# Altium schematic symbol library Sync_Buck.SCHLIB: 63 symbols
Pins are listed as number, name and electrical type; pins without a type are passive.

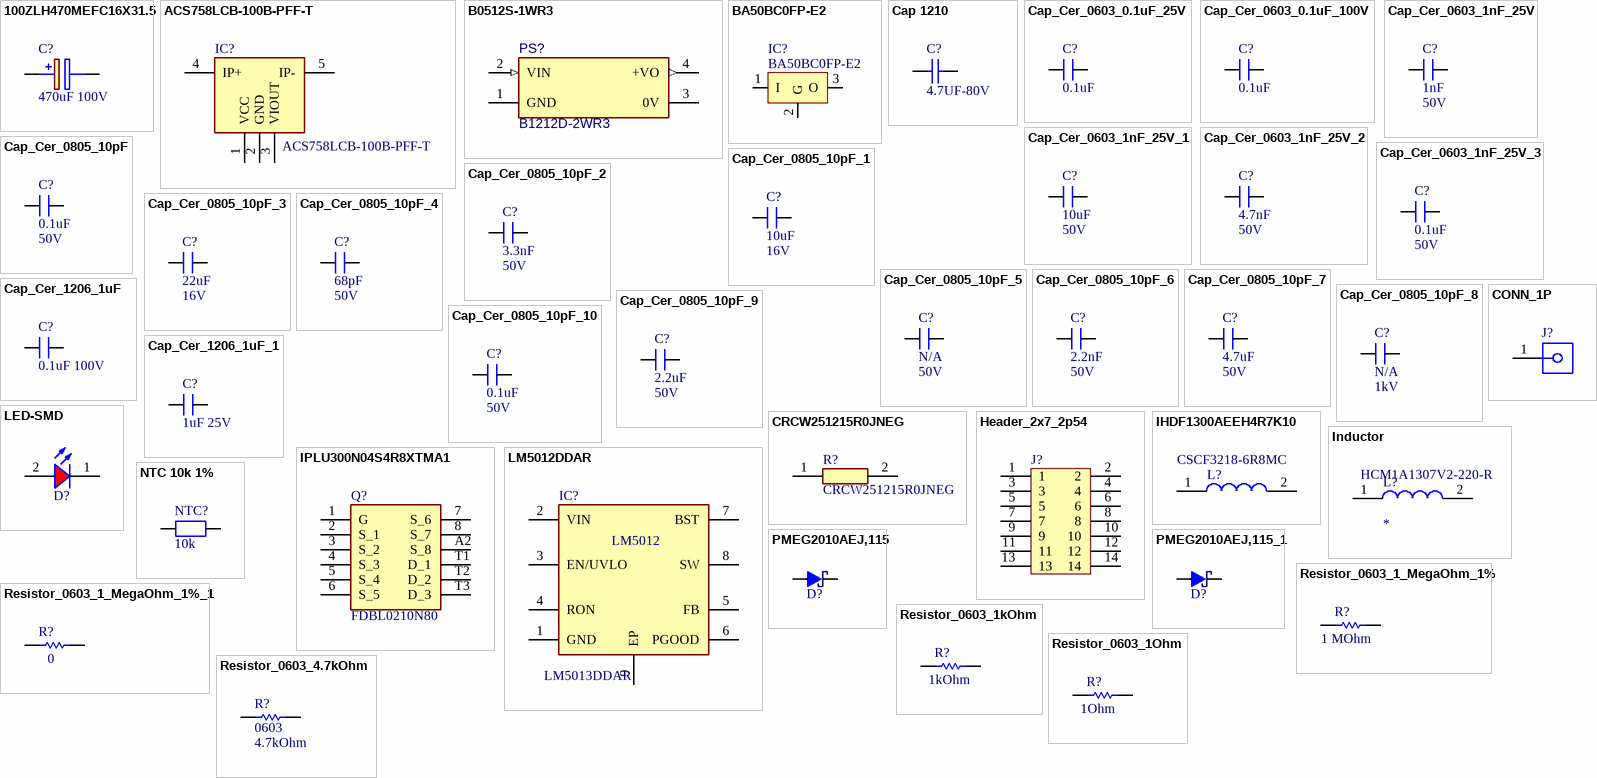
[diagram p0: symbols 100ZLH470MEFC16X31.5 to Resistor_0603_4.7kOhm]

## 100ZLH470MEFC16X31.5
designator C?, comment 470uF 100V
CAP ALUM 470UF 20% 80V RADIAL; Manufacturer_Name: Panasonic Electronic Components; Part Number: EEU-FS1K471L; Value: 470uF 80V; Height: 33.5mm; Mouser Part Number: EEU-FS1K471L; Mouser Price/Stock: https://www.digikey.com/en/products/detail/panasonic-electronic-components/EEU-FS1K471L/9597020; Arrow Part Number: EEU-FS1K471L; Arrow Price/Stock: https://www.arrow.com/en/products/100zlh470mefc16x31.5/rubycon?region=nac
footprint CAP_16x31.5
pins: 1 +, 2 -

## ACS758LCB-100B-PFF-T
designator IC?
Integrated Circuit; Manufacturer_Name: Allegro Microsystems; Datasheet Link: https://www.allegromicro.com/-/media/files/datasheets/acs758-datasheet.ashx; Height: 7.1mm; Manufacturer_Part_Number: ACS758LCB-100B-PFF-T; Mouser Part Number: 250-758LCB100BPFFT; Mouser Price/Stock: https://www.mouser.co.uk/ProductDetail/Allegro-MicroSystems/ACS758LCB-100B-PFF-T?qs=pUKx8fyJudA0WtlqV%2Fcrcw%3D%3D; Arrow Part Number: ACS758LCB-100B-PFF-T; Arrow Price/Stock: https://www.arrow.com/en/products/acs758lcb-100b-pff-t/allegro-microsystems?region=nac
footprint ACS772ECB200BPFFT
pins: 1 VCC, 2 GND, 3 VIOUT, 4 IP+, 5 IP-

## B0512S-1WR3
designator PS?, comment B1212D-2WR3
Isolated Module DC DC Converter 1 Output 12V - - - 84mA 4.5V - 5.5V Input; Part Number: PDSE1-S5-S12-S; Manufacturer: Mornsun America, LLC; Description SEL: DC DC CONVERTER 12V 1W; Value: *
footprint CONV_B0512S-1WR3 (Footprint not found)
footprint B_D-2WR3; pin to pad 2>14 3>8 4>9
pins: 1 GND (power), 2 VIN (in), 3 0V, 4 +VO (out)

## BA50BC0FP-E2
designator IC?
IC REG LINEAR 5V 1A TO252-2; Manufacture: Rohm Semiconductor; ComponentLink1Description: Manufacturer Link; ComponentLink1URL: http://www.st.com/; ComponentLink2Description: Datasheet; ComponentLink2URL: http://www.st.com/stonline/products/literature/ds/2146/l78m05c.pdf; Footprint type: SMD; Category: IC; Part Number: BA50BC0FP-E2
footprint TO252-123
pins: 1 I (power), 2 G (power), 3 O (power)

## Cap 1210
designator C?, comment value 4.7UF-80V  (hidden comment: GRM32ER71K475KE14L)
CAP CER 4.7uF 80V X7R 1210; Manufacturer: TDK Corporation; Description std: CAP CER 4.7UF 100V X7S 1210; Category: Capacitors; Part Number: GRM32ER71K475KE14L; Link: https://www.digikey.com/product-detail/en/tdk-corporation/C3225X7S2A475M200AB/445-6043-2-ND/2443521; Digikey Price/1KU: 0.56250; Package: 1210; Digikey Price/1unit: 1.64
footprint C1210
footprint C_1210
pins: 1, 2

## Cap_Cer_0603_0.1uF_25V
designator C?, comment value 0.1uF  (hidden comment: 0603)
CAP CER 0.1UF 25V X8R 0603; Manufacturer: Murata Electronics; Part Number: GCM188R91E104KA37J; Part Code: S1200-000077; Point: 2; Description SEL: CAP CER 0.1UF 25V X8R 0603; Footprint Type: SMD
footprint C_0603 (Capacitor 0603)
pins: 1, 2

## Cap_Cer_0603_0.1uF_100V
designator C?, comment value 0.1uF  (hidden comment: 0603)
CAP CER 0.1UF 100V X7R 0603; Manufacturer: Murata Electronics; Part Number: GRM188R72A104KA35D; Part Code: S1200-000079; Point: 2; Description SEL: CAP CER 0.1UF 100V X7R 0603; Footprint Type: SMD
footprint C_0603 (Capacitor 0603)
pins: 1, 2

## Cap_Cer_0603_1nF_25V
designator C?, comment 1nF  value 50V
CAP CER 1nF 50V X7R 0603; Manufacturer: Murata Electronics; Part Number: GCM188R71E102KA37D; Part Code: S1200-000082; Description SEL: CAP CER 1000PF 25V X7R 0603; Point: 2; Footprint Type: SMD
footprint C_0603 (Capacitor 0603)
pins: 1, 2

## Cap_Cer_0603_1nF_25V_1
designator C?, comment 10uF  value 50V
CAP CER 10UF 16V X5R 0805; Manufacturer: Murata Electronics; Part Number: CL21A106KOCLRNC; Part Code: S1200-000082; Point: 2; Description SEL: CAP CER 10UF 16V X5R 0805; Footprint Type: SMD
footprint C_0603 (Capacitor 0603)
pins: 1, 2

## Cap_Cer_0603_1nF_25V_2
designator C?, comment 4.7nF  value 50V
CAP CER 0805 4.7NF 50V C0G 5%; Manufacturer: KEMET; Part Number: C0805C472J5GECAUTO; Part Code: S1200-000082; Point: 2; Description SEL: CAP CER 0805 4.7NF 50V C0G 5%; Footprint Type: SMD
footprint C_0603 (Capacitor 0603)
pins: 1, 2

## Cap_Cer_0603_1nF_25V_3
designator C?, comment 0.1uF  value 50V
CAP CER 0.1UF 16V X5R 0603; Manufacturer: Murata Electronics; Part Number: CL21A106KOCLRNC; Part Code: S1200-000082; Description SEL: CAP CER 10UF 16V X5R 0805; Point: 2; Footprint Type: SMD
footprint C_0603 (Capacitor 0603)
pins: 1, 2

## Cap_Cer_0805_10pF
designator C?, comment 0.1uF  value 50V
CAP CER 0.1uF 50V X7R 0805; Manufacturer: Samsung Electro-Mechanics; Part Number: CL21B104KBCNNNC; Part Code: S1200-000116; Description SEL: 10pF 50VDC; Point: 2; Footprint Type: SMD
footprint C_0805 (Capacitor 0805)
pins: 1, 2

## Cap_Cer_0805_10pF_1
designator C?, comment 10uF  value 16V
CAP CER 10uF 16V X7R 0805; Manufacturer: Kemet; Part Number: CL21A106KOCLRNC; Part Code: S1200-000116; Point: 2; Description SEL: CAP CER 10uF 16V X7R 0805; Footprint Type: SMD
footprint C_0805 (Capacitor 0805)
pins: 1, 2

## Cap_Cer_0805_10pF_2
designator C?, comment 3.3nF  value 50V
CAP CER 0805 3.3NF 50V C0G 1%; Manufacturer: Kemet; Part Number: C0805C332F5GECAUTO; Part Code: S1200-000116; Description SEL: 10pF 50VDC; Point: 2; Footprint Type: SMD
footprint C_0805 (Capacitor 0805)
footprint C_0603 (Capacitor 0603)
pins: 1, 2

## Cap_Cer_0805_10pF_3
designator C?, comment 22uF  value 16V
CAP CER 22uF 16V X7R 1210; Manufacturer: Samsung Electro-Mechanics; Part Number: CL32A226KOJNNNE; Part Code: S1200-000116; Point: 2; Description SEL: CAP CER 22uF 16V X7R 1210; Footprint Type: SMD
footprint C_0805 (Capacitor 0805)
footprint C_1210 (Capacitor 1210)
pins: 1, 2

## Cap_Cer_0805_10pF_4
designator C?, comment 68pF  value 50V
CAP CER 68pF 50V C0G 0603; Manufacturer: Kemet; Part Number: CL10C680JB81PNC; Part Code: S1200-000116; Point: 2; Description SEL: CAP CER 68pF 50V C0G 0603; Footprint Type: SMD
footprint C_0805 (Capacitor 0805)
footprint C_0603 (Capacitor 0603)
pins: 1, 2

## Cap_Cer_0805_10pF_5
designator C?, comment N/A  value 50V
CAP CER 100pF 50V C0G 0603; Manufacturer: Kemet; Part Number: CL10C101JB81PNC; Part Code: S1200-000116; Point: 2; Description SEL: CAP CER 100pF 50V C0G 0603; Footprint Type: SMD
footprint C_0805 (Capacitor 0805)
footprint C_0603 (Capacitor 0603)
pins: 1, 2

## Cap_Cer_0805_10pF_6
designator C?, comment 2.2nF  value 50V
CAP CER 2.2nF 50V X7R 0805; Manufacturer: Samsung Electro-Mechanics; Part Number: C0805C222J5GEC7800; Part Code: S1200-000116; Description SEL: CAP CER 2.2nF 50V X7R 0603; Point: 2; Footprint Type: SMD
footprint C_0805 (Capacitor 0805)
footprint C_0603 (Capacitor 0603)
pins: 1, 2

## Cap_Cer_0805_10pF_7
designator C?, comment 4.7uF  value 50V
CAP CER 4.7uF 50V X7R 0805; Manufacturer: Samsung Electro-Mechanics; Part Number: CL31B225KBHNNNE; Part Code: S1200-000116; Description SEL: 10pF 50VDC; Point: 2; Footprint Type: SMD
footprint C_0805 (Capacitor 0805)
pins: 1, 2

## Cap_Cer_0805_10pF_8
designator C?, comment N/A  value 1kV
CAP CER 100pF 50V C0G 0603; Manufacturer: Kemet; Part Number: CL10C101JB81PNC; Part Code: S1200-000116; Point: 2; Description SEL: CAP CER 100pF 50V C0G 0603; Footprint Type: SMD
footprint C_0805 (Capacitor 0805)
footprint C_0603 (Capacitor 0603)
pins: 1, 2

## Cap_Cer_0805_10pF_9
designator C?, comment 2.2uF  value 50V
CAP CER 2.2uF 50V X7R 0805; Manufacturer: Samsung Electro-Mechanics; Part Number: CL31B225KBHNNNE; Part Code: S1200-000116; Description SEL: 10pF 50VDC; Point: 2; Footprint Type: SMD
footprint C_0805 (Capacitor 0805)
pins: 1, 2

## Cap_Cer_0805_10pF_10
designator C?, comment 0.1uF  value 50V
CAP CER 0.1uF 50V X7R 0603; Manufacturer: Kemet; Part Number: CL10C680JB81PNC; Part Code: S1200-000116; Description SEL: CAP CER 68pF 50V C0G 0603; Point: 2; Footprint Type: SMD
footprint C_0805 (Capacitor 0805)
footprint C_0603 (Capacitor 0603)
pins: 1, 2

## Cap_Cer_1206_1uF
designator C?, comment 0.1uF 100V
Ceramic Capacitor 1206 (+-10% TH)/(+10%SMD); Manufacturer: TDK Corporation; Part Number: C3216X7R2A105K160AA; Part Code: S1200-000129; Description SEL: CAP CER 1UF 100V X7R 1206; Point: 2; Footprint Type: SMD
footprint C_1206 (Capacitor 1206)
pins: 1, 2

## Cap_Cer_1206_1uF_1
designator C?, comment 1uF 25V
Ceramic Capacitor 1206 (+-10% TH)/(+10%SMD); Manufacturer: TDK Corporation; Part Number: C3216X7R2A105K160AA; Part Code: S1200-000129; Description SEL: CAP CER 1UF 100V X7R 1206; Point: 2; Footprint Type: SMD
footprint C_1206 (Capacitor 1206)
pins: 1, 2

## CONN_1P
designator J?
TERM REDCUBE M4 8PIN PCB; Part Number: 7460307; Footprint type: TH; Footprint/Package: Nonstandard
footprint Electric Pole 1
footprint Electronic_pole_1
footprint Electric Pole 2
footprint Hole_7mm
footprint Hole_4.2mm
footprint Hole_4.2mm_Toplayer
pins: 1

## CRCW251215R0JNEG
designator R?
Resistor; Manufacturer_Name: Vishay; Datasheet Link: http://www.vishay.com/docs/20035/dcrcwe3.pdf; Height: 0.7mm; Manufacturer_Part_Number: CRCW251215R0JNEG; Mouser Part Number: 71-CRCW2512J-15-E3; Mouser Price/Stock: https://www.mouser.co.uk/ProductDetail/Vishay-Dale/CRCW251215R0JNEG?qs=Z1AZHWO%2FsqLBwgjNhUTIZA%3D%3D; Arrow Part Number: CRCW251215R0JNEG; Arrow Price/Stock: https://www.arrow.com/en/products/crcw251215r0jneg/vishay
footprint RESC6332X70N
pins: 1, 2

## Header_2x7_2p54
designator J?  (value not drawn)
CONN D-SUB PLUG 15POS VERT SLDR; Part Number: L717SDAH15POL2RM8; Part Code: S1900-000013; Point: 14; Manufacturer: *; Value: *; Description SEL: Header_2x7_2p54; Footprint Type: TH
footprint HEADER_2X7 (HEADER_2X7_2P54)
pins: 1, 2, 3, 4, 5, 6, 7, 8, 9, 10, 11, 12, 13, 14

## IHDF1300AEEH4R7K10
designator L?, comment CSCF3218-6R8MC
6.8 µH Shielded Wirewound Inductor 50 A 1.6mOhm Max Nonstandard Mn-Zn Ferrite Low Loss; Manufacturer_Name: Vishay; Datasheet Link: https://www.vishay.com/docs/34538/ihdf-1300ae-10.pdf; Height: 15.4mm; Part Number: CSCF3218-6R8MC; Mouser Part Number: CSCF3218-6R8MC; Mouser Price/Stock: https://www.mouser.co.uk/ProductDetail/Vishay-Dale/IHDF1300AEEH4R7K10?qs=rkhjVJ6%2F3EKAMBQJjlTUTQ%3D%3D
footprint IHDF1300AEEH4R7K10
footprint CSCF3218-6R8MC
pins: 1, 2

## Inductor
designator L?, comment HCM1A1307V2-220-R
FIXED IND 22UH 6A 33.1 MOHM SMD; Manufacturer: Taiyo Yuden; Footprint: Nonstandard; Footprint type: SMD; Category: Inductor; Part Number: HCM1A1307V2-220-R; Value: *
footprint IND-SMD-6mm*6mm
footprint IND-SMD-8mm*8mm
footprint IND-SMD-10mm*10mm
footprint IND-SMD-7.2mmx7.2mm
footprint Inductor-10x10mm
footprint SRR1260A470M
pins: 1, 2

## IPLU300N04S4R8XTMA1
designator Q?, comment FDBL0210N80
MOSFET N-CH 80V 240A 8HPSOF; Manufacturer_Name: Infineon; Height: 2.3mm; Part Number: FDBL0210N80; Mouser Part Number: FDBL0210N80; Arrow Part Number: IPLU300N04S4R8XTMA1
footprint NTBLS1D5N10MC
footprint NTBLS1D5N10MC
footprint NTBLS1D5N10MC - duplicate
pins: 1 G, 2 S_1, 3 S_2, 4 S_3, 5 S_4, 6 S_5, 7 S_6, 8 S_7, A2 S_8, T1 D_1, T2 D_2, T3 D_3

## LED-SMD
designator D?  (value not drawn)
LED RED DIFFUSED 0805 SMD; Manufacturer: OSRAM Opto Semiconductors Inc.; Part Number: LS R976-NR-1; Category: LED; Footprint type: SMD
footprint SM-LED-0805-Red
pins: 1 K, 2 A

## LM5012DDAR
designator IC?, comment LM5013DDAR
IC REG BUCK ADJ 3.5A 8SO PWR; Part Number: LM5013DDAR
footprint SOIC127P600X170-9N
pins: 1 GND, 2 VIN, 3 EN/UVLO, 4 RON, 5 FB, 6 PGOOD, 7 BST, 8 SW, 9 EP
text: LM5012

## NTC 10k 1%
designator NTC?, comment 10k
THERMISTOR NTC 10KOHM 3940K 0805; Manufacturer: Vishay Beyschlag/Draloric/BC Components; Part Number: NTCS0805E3103JHT; Part Code: S1100-000169; Point: 2; Power: 1/10W; Tolerance: 0.1%; Description SEL: THERMISTOR NTC 10KOHM 3940K 0805; Footprint Type: SMD
footprint NTC 0805
pins: 1, 2

## PMEG2010AEJ,115
designator D?, comment B0520WS-7-F  (value not drawn)
DIODE SCHOTTKY 20V 1A SOD323F; Manufacturer: Nexperia USA Inc.; Part Number: PMEG2010AEJ,115; Current: 1A (DC); Category: DIODE; Footprint/Package: SOD-323F; Footprint type: SMD; Voltage: 20 V
footprint SOD323F (SOD-323; 2 Leads; Body 2.7 x 1.6 mm, (LxW))
pins: 1, 2

## PMEG2010AEJ,115_1
designator D?, comment PMEG2010AEJ,115  (value not drawn)
DIODE SCHOTTKY 20V 1A SOD323F; Manufacturer: Nexperia USA Inc.; Current: 1A (DC); Category: DIODE; Part Number: PMEG2010AEJ,115; Footprint/Package: SOD-323F; Footprint type: SMD; Voltage: 20 V
footprint SOD323F (SOD-323; 2 Leads; Body 2.7 x 1.6 mm, (LxW))
pins: 1, 2

## Resistor_0603_1_MegaOhm_1%
designator R?, comment value 1 MOhm  (hidden comment: 0603)
RES 1M OHM 1% 1/10W 0603; Manufacturer: YAGEO; Part Number: RC0603FR-071ML; Part Code: S1100-000171; Point: 2; Description SEL: RES 1M OHM 1% 1/10W 0603; Footprint Type: SMD; Power: 1/10W; Tolerance: 1%
footprint R_0603
pins: 1, 2

## Resistor_0603_1_MegaOhm_1%_1
designator R?, comment value 0  (hidden comment: 0603)
RES 1M OHM 1% 1/10W 0603; Manufacturer: YAGEO; Part Number: RC0603FR-071ML; Part Code: S1100-000171; Point: 2; Description SEL: RES 1M OHM 1% 1/10W 0603; Footprint Type: SMD; Power: 1/10W; Tolerance: 1%
footprint R_0603
pins: 1, 2

## Resistor_0603_1kOhm
designator R?, comment value 1kOhm  (hidden comment: 0603)
RES 1K OHM 1% 1/10W 0603; Manufacturer: Vishay Dale; Part Number: CRCW06031K00FKTA; Part Code: S1100-000139; Point: 2; Description SEL: RES 1K OHM 1% 1/10W 0603; Footprint Type: SMD; Power: 1/10W; Tolerance: 1%
footprint R_0603
pins: 1, 2

## Resistor_0603_1Ohm
designator R?, comment value 1Ohm  (hidden comment: 0603)
RES 1OHM 1% 1/8W 0603; Manufacturer: Vishay Dale; Part Number: MCT06030C1008FP500; Part Code: S1100-000140; Point: 2; Description SEL: RES 1 OHM 1% 1/8W 0603; Footprint Type: SMD; Power: 1/8W; Tolerance: 1%
footprint R_0603
pins: 1, 2

## Resistor_0603_4.7kOhm
designator R?, comment 0603  value 4.7kOhm
RES 4.7K OHM 1% 1/10W 0603; Manufacturer: YAGEO; Part Number: RC0603FR-074K7L; Part Code: S1100-000158; Point: 2; Description SEL: RES 4.7K OHM 1% 1/10W 0603; Footprint Type: SMD; Power: 1/10W; Tolerance: 1%
footprint R_0603
pins: 1, 2

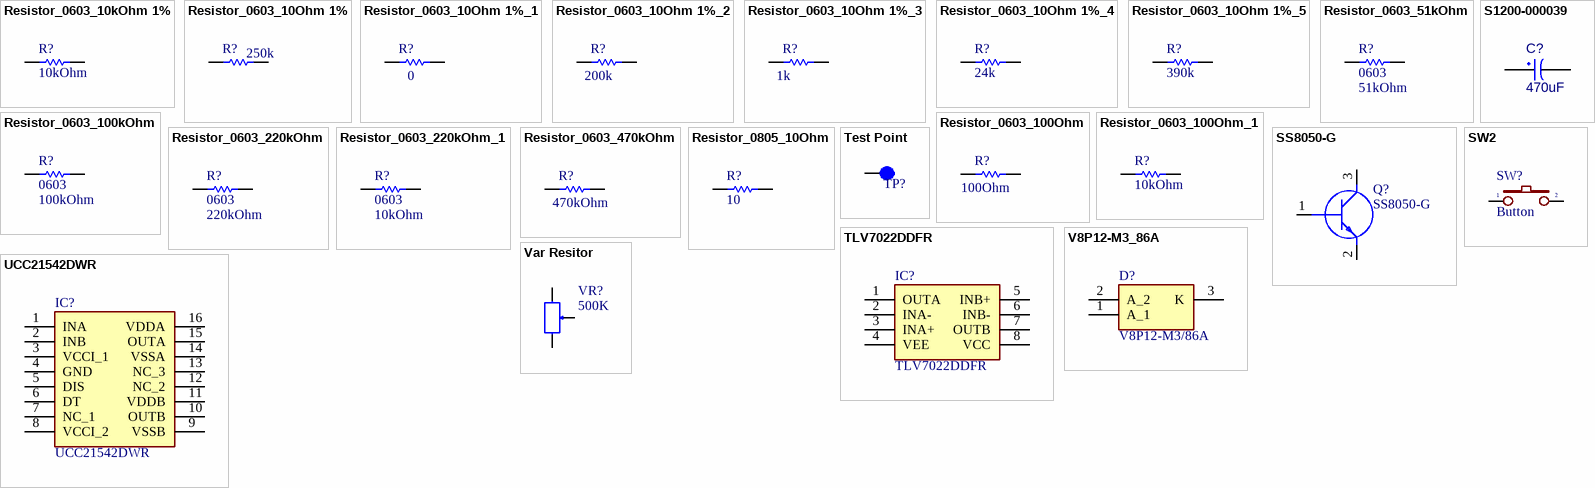
[diagram p1: symbols Resistor_0603_10kOhm 1% to Var Resitor]

## Resistor_0603_10kOhm 1%
designator R?, comment value 10kOhm  (hidden comment: 0603)
RES 10K OHM 1% 1/10W 0603; Manufacturer: YAGEO; Part Number: RC0603FR-7W10KL; Part Code: S1100-000043; Point: 2; Description SEL: RES 10K OHM 1% 1/10W 0603; Footprint Type: SMD; Power: 1/10W; Tolerance: 1%
footprint R_0603
pins: 1, 2

## Resistor_0603_10Ohm 1%
designator R?, comment 250k
RES 250k OHM 1% 1/8W 0603; Manufacturer: KOA Speer Electronics, Inc.; Part Number: RNCF0805BTE250K; Part Code: S1100-000044; Point: 2; Description SEL: RES 250k OHM 1% 1/8W 0603; Footprint Type: SMD; Power: 1/8W; Tolerance: 1%
footprint R_0603 (Resistor 0603)
pins: 1, 2

## Resistor_0603_10Ohm 1%_1
designator R?, comment 0
RES 300k OHM 1% 1/8W 0603; Manufacturer: KOA Speer Electronics, Inc.; Part Number: RT0603FRE07300KL; Part Code: S1100-000044; Point: 2; Description SEL: RES 300k OHM 1% 1/8W 0603; Footprint Type: SMD; Power: 1/8W; Tolerance: 1%
footprint R_0603 (Resistor 0603)
pins: 1, 2

## Resistor_0603_10Ohm 1%_2
designator R?, comment 200k
RES 200K OHM 1% 1/10W 0603; Manufacturer: YAGEO; Part Number: RC0603FR-13200KL; Part Code: S1100-000044; Point: 2; Power: 1/8W; Description SEL: RES 200K OHM 1% 1/10W 0603; Footprint Type: SMD; Tolerance: 1%
footprint R_0603 (Resistor 0603)
pins: 1, 2

## Resistor_0603_10Ohm 1%_3
designator R?, comment 1k
RES 200K OHM 1% 1/10W 0603; Manufacturer: YAGEO; Part Number: RC0603FR-13200KL; Part Code: S1100-000044; Point: 2; Power: 1/8W; Description SEL: RES 200K OHM 1% 1/10W 0603; Footprint Type: SMD; Tolerance: 1%
footprint R_0603 (Resistor 0603)
pins: 1, 2

## Resistor_0603_10Ohm 1%_4
designator R?, comment 24k
RES 24k OHM 1% 1/8W 0603; Manufacturer: YAGEO; Part Number: RC0603FR-1024KL; Part Code: S1100-000044; Description SEL: RES 24K OHM 1% 1/10W 0603; Point: 2; Value: 8.2-10kOhm; Footprint Type: SMD; Power: 1/8W; Tolerance: 1%
footprint R_0603
pins: 1, 2

## Resistor_0603_10Ohm 1%_5
designator R?, comment 390k
RES 390k OHM 1% 1/8W 0603; Manufacturer: YAGEO; Part Number: RC0603FR-07390KL; Part Code: S1100-000044; Description SEL: RES 390K OHM 1% 1/10W 0603; Point: 2; Footprint Type: SMD; Power: 1/8W; Tolerance: 1%
footprint R_0603
pins: 1, 2

## Resistor_0603_51kOhm
designator R?, comment 0603  value 51kOhm
RES SMD 51K OHM 1% 1/8W 0603; Manufacturer: YAGEO; Part Number: RC0603FR-0751KL; Part Code: S1100-000148; Point: 2; Description SEL: RES SMD 51K OHM 1% 1/8W 0603; Footprint Type: SMD; Power: 1/8W; Tolerance: 1%
footprint R_0603
pins: 1, 2

## Resistor_0603_100kOhm
designator R?, comment 0603  value 100kOhm
RES SMD 100K OHM 1% 1/8W 0603; Manufacturer: Vishay Beyschlag/Draloric/BC Components; Part Number: MCT06030C1003FP500; Part Code: S1100-000051; Point: 2; Description SEL: RES SMD 100K OHM 1% 1/8W 0603; Footprint Type: SMD; Power: 1/8W; Tolerance: 1%
footprint R_0603
pins: 1, 2

## Resistor_0603_100Ohm
designator R?, comment value 100Ohm  (hidden comment: 0603)
RES 100 OHM 1% 1/8W 0603; Manufacturer: KOA Speer Electronics, Inc.; Part Number: RK73H1JRTTD1000F; Part Code: S1100-000052; Point: 2; Description SEL: RES 100 OHM 1% 1/8W 0603; Footprint Type: SMD; Power: 1/8W; Tolerance: 1%
footprint R_0603
pins: 1, 2

## Resistor_0603_100Ohm_1
designator R?, comment value 10kOhm  (hidden comment: 0603)
RES 10 kOHM 1% 1/8W 0603; Manufacturer: KOA Speer Electronics, Inc.; Part Number: RK73H1JRTTD1000F; Part Code: S1100-000052; Description SEL: RES 100 OHM 1% 1/8W 0603; Point: 2; Footprint Type: SMD; Power: 1/8W; Tolerance: 1%
footprint R_0603
pins: 1, 2

## Resistor_0603_220kOhm
designator R?, comment 0603  value 220kOhm
RES SMD 220K OHM 1% 1/8W 0603; Manufacturer: Vishay Beyschlag/Draloric/BC Components; Part Number: MCT06030C2203FP500; Part Code: S1100-000053; Point: 2; Description SEL: RES SMD 220K OHM 1% 1/8W 0603; Footprint Type: SMD; Power: 1/8W; Tolerance: 1%
footprint R_0603
pins: 1, 2

## Resistor_0603_220kOhm_1
designator R?, comment 0603  value 10kOhm
RES SMD 220K OHM 1% 1/8W 0603; Manufacturer: Vishay Beyschlag/Draloric/BC Components; Part Number: MCT06030C2203FP500; Part Code: S1100-000053; Point: 2; Description SEL: RES SMD 220K OHM 1% 1/8W 0603; Footprint Type: SMD; Power: 1/8W; Tolerance: 1%
footprint R_0603
pins: 1, 2

## Resistor_0603_470kOhm
designator R?, comment value 470kOhm  (hidden comment: 0603)
RES SMD 470K OHM 1% 1/10W 0603; Manufacturer: Walsin Technology Corporation; Part Number: RES 470K OHM 1% 1/10W 0603; Part Code: S1100-000056; Point: 2; Description SEL: RES SMD 470K OHM 1% 1/10W 0603; Footprint Type: SMD; Power: 1/10W; Tolerance: 1%
footprint R_0603
pins: 1, 2

## Resistor_0805_10Ohm
designator R?, comment 10
RES 10 OHM 1% 1/8W 0805; Part Number: RE0805FRE0710RL; Manufacturer: YAGEO; Part Code: S1100-000072; Description SEL: RES SMD 10 OHM 1% 1/8W 0805; Point: 2; Footprint Type: SMD; Power: 1/8W; Tolerance: 1%
footprint R_0805 (Resistor 0805)
pins: 1, 2

## S1200-000039
designator C?, comment value 470uF  (hidden comment: Cap_Alu_TH_8P0D3P5)
CAP ALUM 470UF 20% 25V RADIAL; Manufacturer: Rubycon; Part Number: 16YXJ220MT16.3X11; Part Code: S1200-000039; Point: 2; Description SEL: CAP ALUM 470UF 20% 25V RADIAL; Footprint Type: TH; Component Kind: Standard; Footprint: C_ALU_TH_8p0D11p5
footprint C_ALU_TH_8p0D11p5 (Use for 47uF Capacitor Through Hole)
pins: 1, 2

## SS8050-G
designator Q?
Transistor BJT NPN; Manufacturer_Name: Comchip Technology; Datasheet Link: https://datasheet.datasheetarchive.com/originals/distributors/DKDS-12/229454.pdf; Height: 1.15mm; Manufacturer_Part_Number: SS8050-G; Mouser Part Number: 750-SS8050-G; Mouser Price/Stock: https://www.mouser.co.uk/ProductDetail/Comchip-Technology/SS8050-G?qs=LLUE9lz1YbcHg%252BWLMAtcrQ%3D%3D; Arrow Part Number: SS8050-G; Arrow Price/Stock: https://www.arrow.com/en/products/ss8050-g/comchip-technology?region=nac
footprint SOT95P240X115-3N
footprint SOT95P230X110-3N
pins: 1 B, 2 E, 3 C

## SW2
designator SW?, comment Button
Nút nhấn 2 chân dán 3x6x2.5mm; Category: Connector
footprint SW2 (SW button 2pin, 250x 250 mil)
footprint SW4 (SW button 4pin, 250 x250 mil)
footprint SW4 (SW button 4pin, 250 x250 mil)
footprint SW2-SMD (PTS636 SK25F SMTR LFS)
footprint BUTTON_2P_SMD
pins: 1, 2

## Test Point
designator TP?  (value not drawn)
PC TEST POINT COMPACT RED; Part Number: 5005; Manufacturer: Keystone Electronics
footprint Test Point
footprint TP_1mm (Surface)
footprint TP_1mm_through_hole
pins: 1 B

## TLV7022DDFR
designator IC?
IC COMPARATOR 2 GEN PUR TSOT23-8; Manufacturer_Name: Texas Instruments; Height: 1.1mm; Part Number: TLV7022DDFR; Mouser Part Number: 595-TLV7022DDFR; Mouser Price/Stock: https://www.mouser.co.uk/ProductDetail/Texas-Instruments/TLV7022DDFR?qs=DPoM0jnrROVunnoIjN7Ztg%3D%3D; Arrow Part Number: TLV7022DDFR; Arrow Price/Stock: https://www.arrow.com/en/products/tlv7022ddfr/texas-instruments?region=nac
footprint SOT65P280X110-8N
pins: 1 OUTA, 2 INA-, 3 INA+, 4 VEE, 5 INB+, 6 INB-, 7 OUTB, 8 VCC

## UCC21542DWR
designator IC?
REINFORCED ISOLATION DUAL-CHANNE; Manufacturer_Name: Texas Instruments; Datasheet Link: https://www.ti.com/lit/ds/symlink/ucc21542.pdf?ts=1623395410745&ref_url=https%253A%252F%252Fwww.ti.com%252Fstore%252Fti%252Fen%252Fp%252Fproduct%252F%253Fp%253DUCC21542DWKR; Height: 2.65mm; Part Number: UCC21542DWR; Mouser Part Number: 595-UCC21542DWR; Mouser Price/Stock: https://www.mouser.co.uk/ProductDetail/Texas-Instruments/UCC21542DWR?qs=DRkmTr78QARxjB5fL7Hhaw%3D%3D
footprint SOIC127P1030X265-16N
pins: 1 INA, 2 INB, 3 VCCI_1, 4 GND, 5 DIS, 6 DT, 7 NC_1, 8 VCCI_2, 9 VSSB, 10 OUTB, 11 VDDB, 12 NC_2, 13 NC_3, 14 VSSA, 15 OUTA, 16 VDDA

## V8P12-M3_86A
designator D?, comment V8P12-M3/86A
DIODE SCHOTTKY 120V 8A TO277A; Manufacturer_Name: Vishay; Datasheet Link: https://www.vishay.com/docs/89170/v8p12.pdf; Height: 1.2mm; Part Number: V8P12-M3/86A; Mouser Part Number: 78-V8P12-M3/86A; Mouser Price/Stock: https://www.mouser.co.uk/ProductDetail/Vishay-General-Semiconductor/V8P12-M3-86A?qs=HSPD0Bff7iYR%2FGS73JOLOg%3D%3D; Arrow Part Number: V8P12-M3/86A; Arrow Price/Stock: https://www.arrow.com/en/products/v8p12-m386a/vishay?region=nac
footprint V8P12M386A
pins: 1 A_1, 2 A_2, 3 K

## Var Resitor
designator VR?, comment 500K
Var Resistor 500k OHM RVAR; Value: VR 10K
footprint VR1 (Variable Resistor)
footprint VR (Resistor Variable)
footprint VOL-D (Volume control Dual)
footprint VOL_SMD
footprint VOL-S (Volume control single)
footprint RVAR10K (Bien tro vi chinh)
pins: 1, 2, 3